# Altium footprint library PCB_Library.PcbLib: 42 footprints (part 2 of 3)
Each footprint in its own frame and in the unit in brackets; x right, y up, seen from the top. Pads: shape width x height; smd on the part's side, far side on the other; paste and mask are expansions set on the pad; w line width, h text height; cw(c..) or ccw(c..) is an arc to the next point about the centre after c.
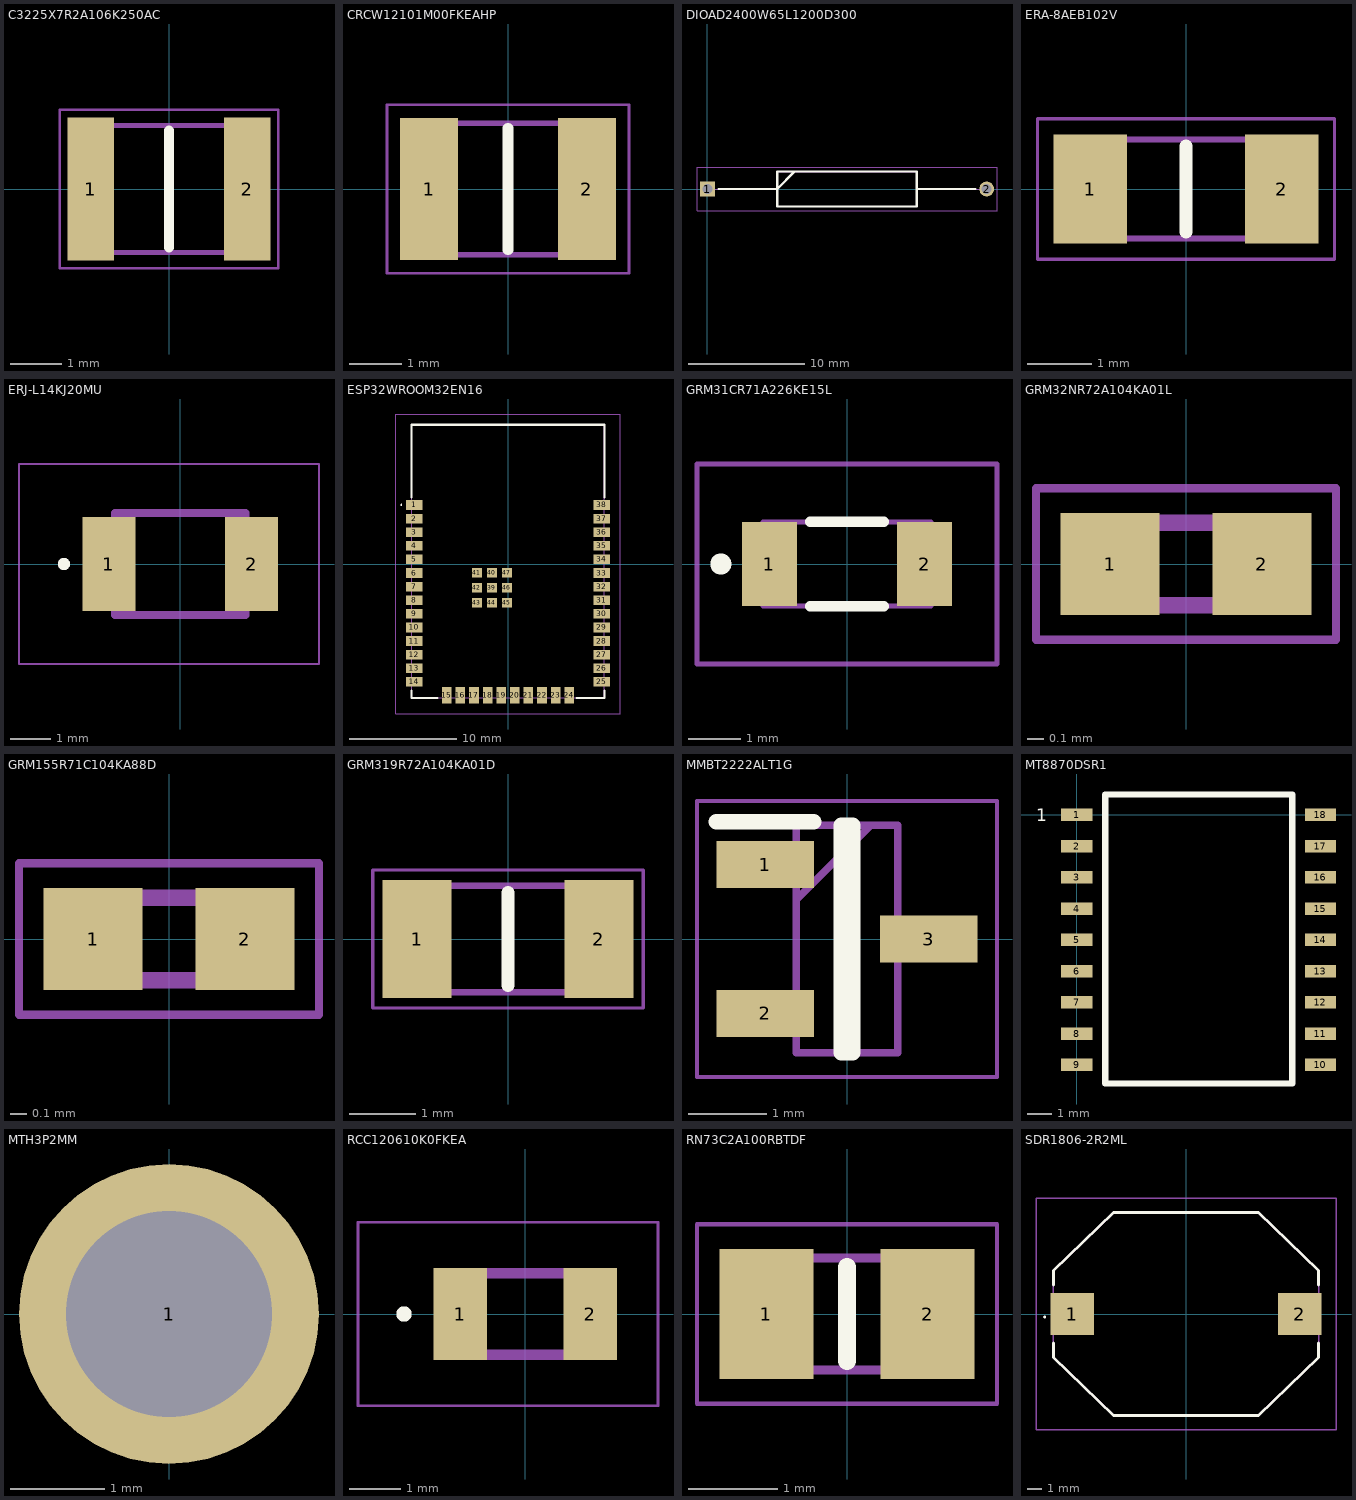
[diagram p1: the footprints below, top view; thin cyan lines are the x and y axes]

## C3225X7R2A106K250AC [mm]
pads (2):
  rect 0.92x2.82 smd: 1(-1.54,0) 2(1.54,0)
Top Overlay:
  lines w0.2: 0,-1.15 0,1.15
Mechanical 13:
  lines w0.1: -1.6,-1.25 -1.6,1.25 1.6,1.25 1.6,-1.25 -1.6,-1.25
Mechanical 15:
  lines w0.05: -2.15,-1.56 -2.15,1.56 2.15,1.56 2.15,-1.56 -2.15,-1.56
3D body "C3225X7R2A106K250AC.stp": height 2.5, standoff 0, extent -1.6,-1.25 1.6,1.25

## CRCW12101M00FKEAHP [mm]
pads (2):
  rect 1.1x2.7 smd: 1(-1.5,0) 2(1.5,0)
Top Overlay:
  lines w0.2: 0,-1.15 0,1.15
Mechanical 13:
  lines w0.1: -1.6,-1.25 -1.6,1.25 1.6,1.25 1.6,-1.25 -1.6,-1.25
Mechanical 15:
  lines w0.05: -2.3,-1.6 -2.3,1.6 2.3,1.6 2.3,-1.6 -2.3,-1.6
3D body "CRCW12101M00FKEAHP.stp": height 0.7, standoff 0, extent -1.6,-1.25 1.6,1.25

## DIOAD2400W65L1200D300 [mm]
pads (2):
  rect 1.275x1.275 hole 0.85: 1(0,0)
  round 1.275 hole 0.85: 2(24,0)
Top Overlay:
  lines w0.2: 0.988,0 6,0 7.5,1.5 ; 18,0 23.012,0 ; 6,-1.5 6,1.5 18,1.5 18,-1.5 6,-1.5
Mechanical 13:
  lines w0.1: 0,0 6,0 7.5,1.5 ; 18,0 24,0 ; 6,-1.5 6,1.5 18,1.5 18,-1.5 6,-1.5
Mechanical 15:
  lines w0.05: -0.888,-1.85 -0.888,1.85 24.887,1.85 24.887,-1.85 -0.888,-1.85
3D body "DD1800.stp": height 3.1, standoff -3.1, extent -0.325,-1.539 24.325,1.539

## ERA-8AEB102V [mm]
pads (2):
  rect 1.15x1.7 smd: 1(-1.5,0) 2(1.5,0)
Top Overlay:
  lines w0.2: 0,-0.675 0,0.675
Mechanical 13:
  lines w0.1: -1.6,-0.775 1.6,-0.775 1.6,0.775 -1.6,0.775 -1.6,-0.775
Mechanical 15:
  lines w0.05: -2.325,-1.1 2.325,-1.1 2.325,1.1 -2.325,1.1 -2.325,-1.1
3D body "ERA-8AEB102V.stp": height 0.6, standoff 0, extent -1.6,-0.8 1.6,0.8

## ERJ-L14KJ20MU [mm]
pads (2):
  rect 1.3x2.3 smd: 1(-1.75,0) 2(1.75,0)
Top Overlay:
  circle w0.2: c-2.85,0 r0.05
Mechanical 13:
  lines w0.2: -1.6,-1.25 -1.6,1.25 1.6,1.25 1.6,-1.25 -1.6,-1.25
Mechanical 15:
  lines w0.05: -3.95,-2.45 -3.95,2.45 3.4,2.45 3.4,-2.45 -3.95,-2.45
3D body "ERJ-L14KJ20MU.stp": height 0.6, standoff 0, extent -1.6,-1.25 1.6,1.25

## ESP32WROOM32EN16 [mm]
pads (47):
  rect 1.5x0.9 smd: 1(-8.75,5.51) 2(-8.75,4.24) 3(-8.75,2.97) 4(-8.75,1.7) 5(-8.75,0.43) 6(-8.75,-0.84) 7(-8.75,-2.11) 8(-8.75,-3.38) 9(-8.75,-4.65) 10(-8.75,-5.92) 11(-8.75,-7.19) 12(-8.75,-8.46) 13(-8.75,-9.73) 14(-8.75,-11) 25(8.75,-11) 26(8.75,-9.73) 27(8.75,-8.46) 28(8.75,-7.19) 29(8.75,-5.92) 30(8.75,-4.65) 31(8.75,-3.38) 32(8.75,-2.11) 33(8.75,-0.84) 34(8.75,0.43) 35(8.75,1.7) 36(8.75,2.97) 37(8.75,4.24) 38(8.75,5.51)
  rect 0.9x1.5 smd: 15(-5.715,-12.25) 16(-4.445,-12.25) 17(-3.175,-12.25) 18(-1.905,-12.25) 19(-0.635,-12.25) 20(0.635,-12.25) 21(1.905,-12.25) 22(3.175,-12.25) 23(4.445,-12.25) 24(5.715,-12.25)
  rect 0.9x0.9 smd: 39(-1.5,-2.21) 40(-1.5,-0.81) 41(-2.9,-0.81) 42(-2.9,-2.21) 43(-2.9,-3.61) 44(-1.5,-3.61) 45(-0.1,-3.61) 46(-0.1,-2.21) 47(-0.1,-0.81)
Top Overlay:
  lines w0.1: -10,5.51 cw(c-9.95,5.51) -9.9,5.51 cw(c-9.95,5.51) -10,5.51
  lines w0.2: -9,-11.8 -9,-12.5 -6.6,-12.5 ; -9,6.2 -9,13 9,13 9,6.2 ; 6.4,-12.5 9,-12.5 9,-11.8
Mechanical 13:
  lines w0.1: -9,-12.5 -9,13 9,13 9,-12.5 -9,-12.5
Mechanical 15:
  lines w0.1: -10.5,-14 -10.5,14 10.5,14 10.5,-14 -10.5,-14
3D body "ESP32-WROOM-32E-N16.stp": height 4.05, standoff 0, extent -9,-12.75 9,12.75

## GRM31CR71A226KE15L [mm]
pads (2):
  rect 1.05x1.6 smd: 1(-1.475,0) 2(1.475,0)
Top Overlay:
  lines w0.2: -0.7,-0.8 0.7,-0.8 ; -0.7,0.8 0.7,0.8 ; -2.4,-0.1 cw(c-2.4,0) -2.4,0.1 cw(c-2.4,0) -2.4,-0.1
Mechanical 13:
  lines w0.1: -1.6,-0.8 1.6,-0.8 1.6,0.8 -1.6,0.8 -1.6,-0.8
Mechanical 15:
  lines w0.1: -2.854,-1.902 2.854,-1.902 2.854,1.902 -2.854,1.902 -2.854,-1.902
3D body "GRM31CR71A226KE15L.stp": height 1, standoff 0, extent -1.6,-0.8 1.6,0.8

## GRM32NR72A104KA01L [mm]
pads (2):
  rect 0.6x0.62 smd: 1(-0.46,0) 2(0.46,0)
Mechanical 13:
  lines w0.1: -0.5,-0.25 0.5,-0.25 0.5,0.25 -0.5,0.25 -0.5,-0.25
Mechanical 15:
  lines w0.05: -0.91,-0.46 0.91,-0.46 0.91,0.46 -0.91,0.46 -0.91,-0.46
3D body "GRM155R71C104KA88D.stp": height 0.55, standoff 0, extent -0.5,-0.25 0.5,0.25

## GRM155R71C104KA88D [mm]
pads (2):
  rect 0.6x0.62 smd: 1(-0.46,0) 2(0.46,0)
Mechanical 13:
  lines w0.1: -0.5,-0.25 0.5,-0.25 0.5,0.25 -0.5,0.25 -0.5,-0.25
Mechanical 15:
  lines w0.05: -0.91,-0.46 0.91,-0.46 0.91,0.46 -0.91,0.46 -0.91,-0.46
3D body "GRM155R71C104KA88D.stp": height 0.55, standoff 0, extent -0.5,-0.25 0.5,0.25

## GRM319R72A104KA01D [mm]
pads (2):
  rect 1.04x1.78 smd: 1(-1.37,0) 2(1.37,0)
Top Overlay:
  lines w0.2: 0,-0.7 0,0.7
Mechanical 13:
  lines w0.1: -1.6,-0.8 -1.6,0.8 1.6,0.8 1.6,-0.8 -1.6,-0.8
Mechanical 15:
  lines w0.05: -2.04,-1.04 -2.04,1.04 2.04,1.04 2.04,-1.04 -2.04,-1.04
3D body "GRM319R72A104KA01D.stp": height 0.95, standoff 0, extent -1.6,-0.8 1.6,0.8

## MMBT2222ALT1G [mm]
pads (3):
  rect 1.25x0.6 smd: 1(-1.05,0.955) 2(-1.05,-0.955) 3(1.05,0)
Top Overlay:
  lines w0.2: -1.675,1.505 -0.425,1.505 ; -0.075,-1.46 -0.075,1.46 0.075,1.46 0.075,-1.46 -0.075,-1.46
Mechanical 13:
  lines w0.1: -0.65,0.505 0.305,1.46 ; -0.65,-1.46 -0.65,1.46 0.65,1.46 0.65,-1.46 -0.65,-1.46
Mechanical 15:
  lines w0.05: -1.925,-1.77 -1.925,1.77 1.925,1.77 1.925,-1.77 -1.925,-1.77
3D body "MMBT2222ALT1G.stp": height 1.11, standoff 0, extent -1.185,-1.46 1.185,1.46

## MT8870DSR1 [mm]
pads (18):
  rect 1.27x0.51 smd: 1(0,0) 2(0,-1.27) 3(0,-2.54) 4(0,-3.81) 5(0,-5.08) 6(0,-6.35) 7(0,-7.62) 8(0,-8.89) 9(0,-10.16) 10(9.906,-10.16) 11(9.906,-8.89) 12(9.906,-7.62) 13(9.906,-6.35) 14(9.906,-5.08) 15(9.906,-3.81) 16(9.906,-2.54) 17(9.906,-1.27) 18(9.906,0)
Top Overlay:
  lines w0.254: 1.163,-10.922 1.163,0.828 8.763,0.828 8.763,-10.922 1.163,-10.922
  text "1" at -1.651,-0.254 h0.51
3D body "MT8870DSR1.stp": height 2.65, standoff 0, extent -0.209,-10.855 10.115,0.695

## MTH3P2MM [mm]
pads (1):
  round 3.175 hole 2.185: 1(0,0)

## RCC120610K0FKEA [mm]
pads (2):
  rect 1.05x1.8 smd: 1(-1.275,0) 2(1.275,0)
Top Overlay:
  circle w0.2: c-2.375,0 r0.05
Mechanical 13:
  lines w0.2: -1.6,-0.8 1.6,-0.8 1.6,0.8 -1.6,0.8 -1.6,-0.8
Mechanical 15:
  lines w0.05: -3.275,-1.8 2.6,-1.8 2.6,1.8 -3.275,1.8 -3.275,-1.8
3D body "RCC120610K0FKEA.stp": height 0.55, standoff 0, extent -1.6,-0.8 1.6,0.8

## RN73C2A100RBTDF [mm]
pads (2):
  rect 1.05x1.45 smd: 1(-0.9,0) 2(0.9,0)
Top Overlay:
  lines w0.2: 0,-0.525 0,0.525
Mechanical 13:
  lines w0.1: -1,-0.625 -1,0.625 1,0.625 1,-0.625 -1,-0.625
Mechanical 15:
  lines w0.05: -1.675,-1 -1.675,1 1.675,1 1.675,-1 -1.675,-1
3D body "RN73C2A100RBTDF.stp": height 0.56, standoff 0, extent -1,-0.625 1,0.625

## SDR1806-2R2ML [mm]
pads (2):
  rect 3x2.9 smd: 1(-7.85,0) 2(7.85,0)
Top Overlay:
  lines w0.1: -9.8,-0.2 cw(c-9.75,-0.2) -9.7,-0.2 cw(c-9.75,-0.2) -9.8,-0.2
  lines w0.2: -9.15,-2 -9.15,-3 -5,-7 5,-7 9.15,-3 9.15,-2 ; -9.15,2 -9.15,3 -5,7 5,7 9.15,3 9.15,2
Mechanical 13:
  lines w0.1: -9.15,-3 -5,-7 5,-7 9.15,-3 9.15,3 5,7 -5,7 -9.15,3 -9.15,-3
Mechanical 15:
  lines w0.1: -10.35,-8 -10.35,8 10.35,8 10.35,-8 -10.35,-8
3D body "SDR1806-2R2ML.stp": height 6.6, standoff 0, extent -9.15,-7 9.15,7